# Altium footprint library 2mm-12p.PcbLib: 1 footprints
Each footprint in its own frame and in the unit in brackets; x right, y up, seen from the top. Pads: shape width x height; smd on the part's side, far side on the other; paste and mask are expansions set on the pad; w line width, h text height; cw(c..) or ccw(c..) is an arc to the next point about the centre after c.
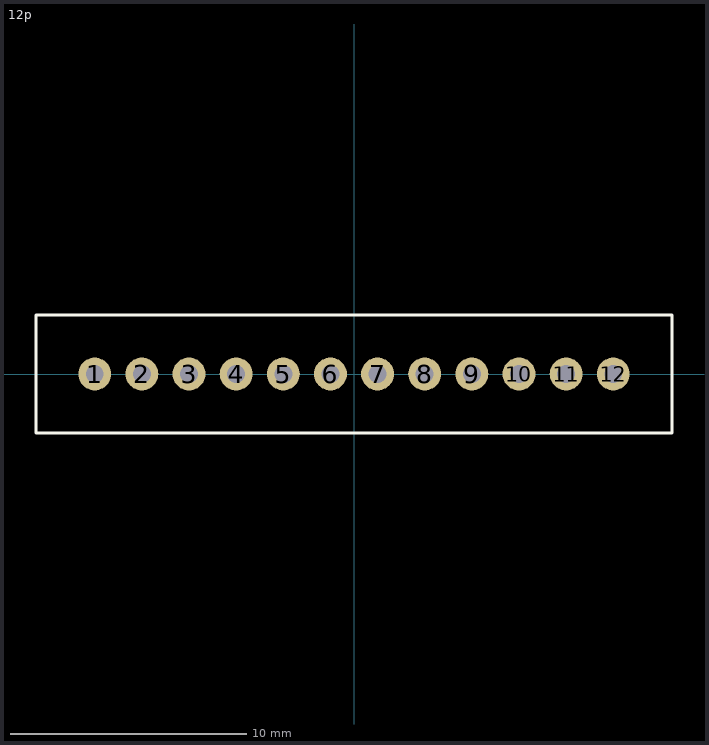
[diagram p0: the footprint, top view; thin cyan lines are the x and y axes]

## 12p [mil]
pads (12):
  round 55 hole 30: 1(-433.07,0) 2(-354.33,0) 3(-275.59,0) 4(-196.85,0) 5(-118.11,0) 6(-39.37,0) 7(39.37,0) 8(118.11,0) 9(196.85,0) 10(275.59,0) 11(354.33,0) 12(433.07,0)
Top Overlay:
  lines w5: -531.5,-98.43 531.5,-98.43 531.5,98.43 511.81,98.43 -531.5,98.43 -531.5,-78.74 -531.5,-98.43